# EAGLE library part TLV2542 (library gost_micro)
2.7-V TO 5.5-V, LOW-POWER, 12-BIT, 140/200 KSPS, SERIAL ANALOG-TO-DIGITAL CONVERTERS WITH AUTOPOWER DOWN
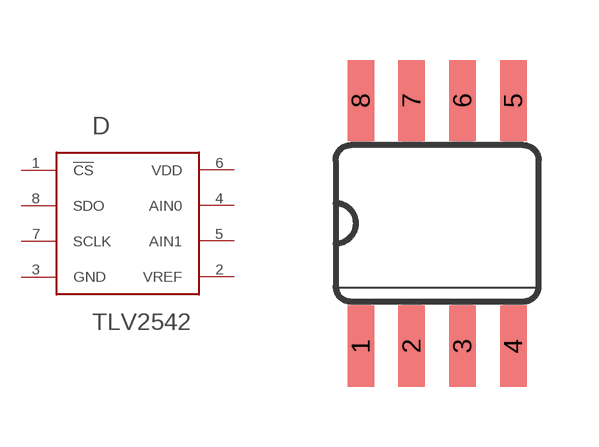
[diagram p12: symbol with the pads of SO08; footprint SO08]

Designator prefix D

## TLV2542  [SO08]
1  !CS
2  VREF
3  GND
4  AIN0
5  AIN1
6  VDD
7  SCLK
8  SDO

## Footprint SO08 (pad centres in mm)
Small Outline package 8 150 mil
smd 0.66 x 2.032: 1 -1.905,-3.073; 2 -0.635,-3.073; 3 0.635,-3.073; 4 1.905,-3.073; 5 1.905,3.073; 6 0.635,3.073; 7 -0.635,3.073; 8 -1.905,3.073